# Altium footprint library DATN_LIB.PcbLib: 75 footprints (part 2 of 5)
Each footprint in its own frame and in the unit in brackets; x right, y up, seen from the top. Pads: shape width x height; smd on the part's side, far side on the other; paste and mask are expansions set on the pad; w line width, h text height; cw(c..) or ccw(c..) is an arc to the next point about the centre after c.
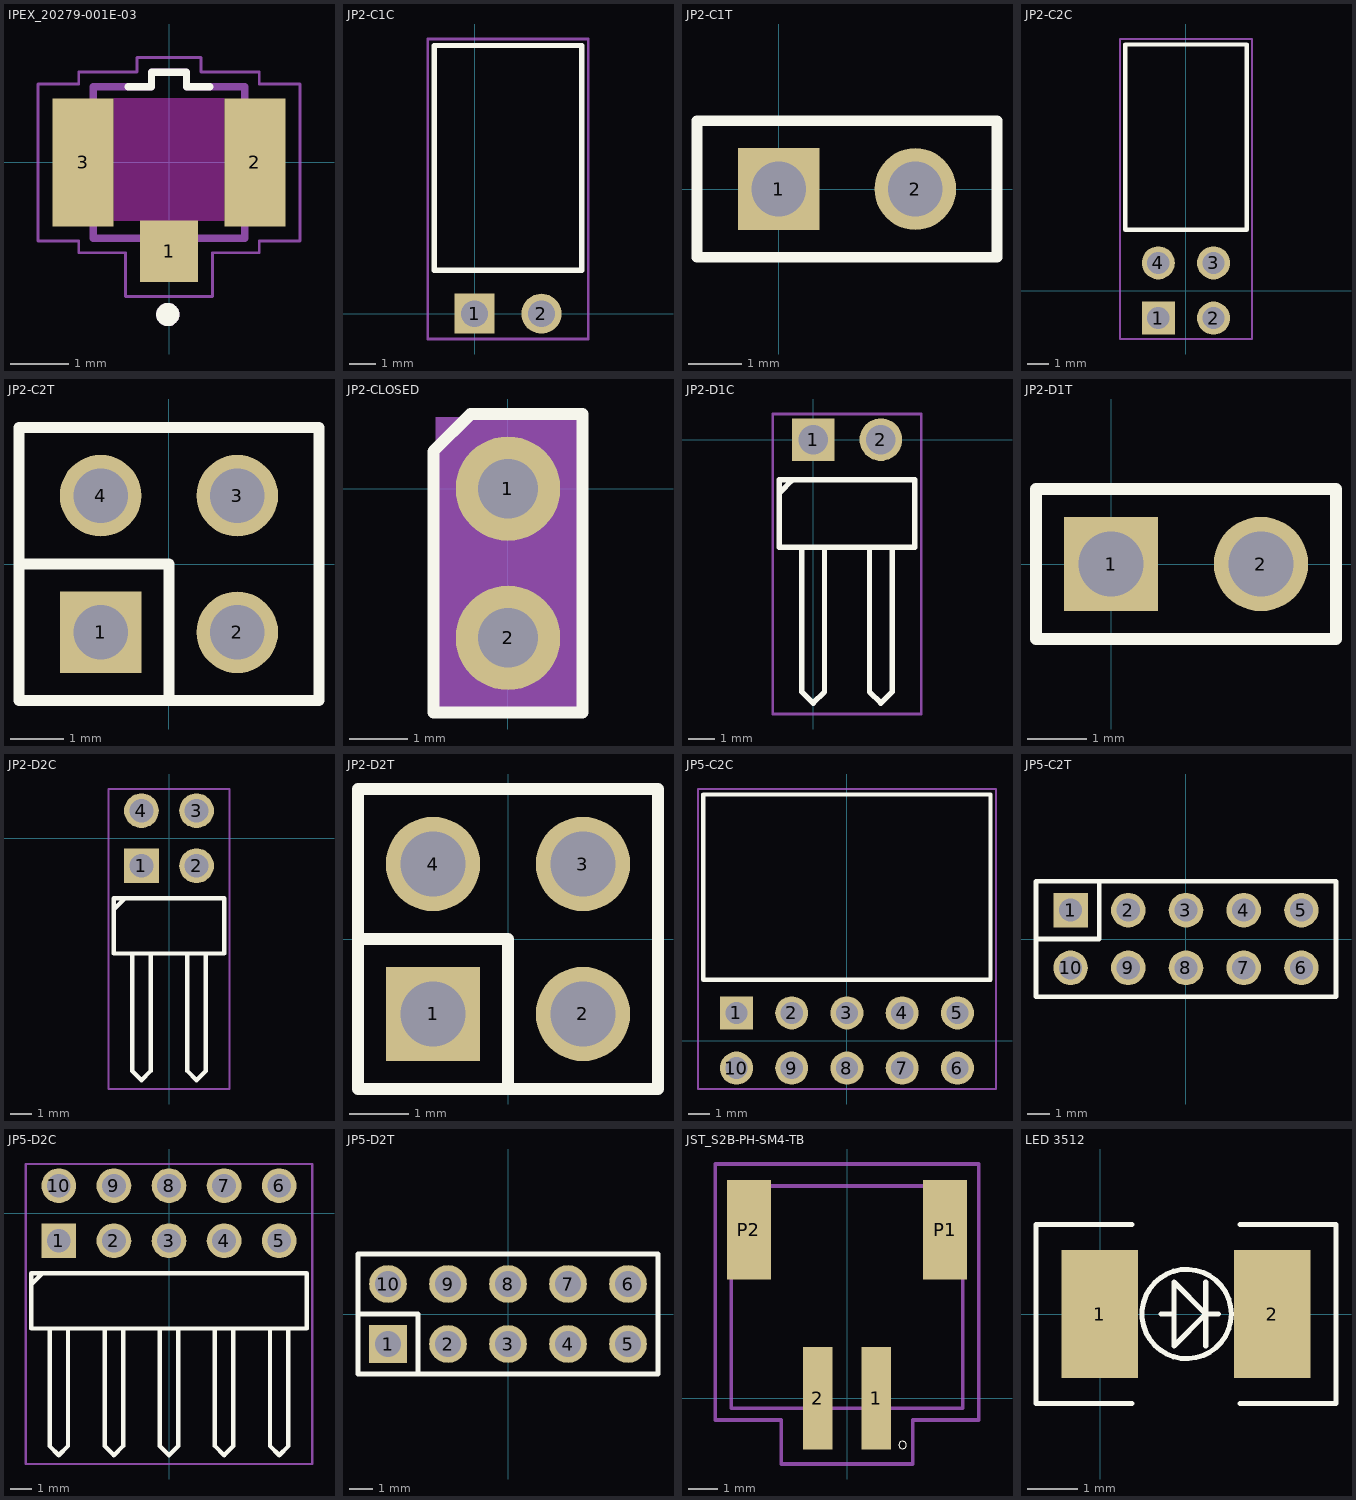
[diagram p1: the footprints below, top view; thin cyan lines are the x and y axes]

## IPEX_20279-001E-03 [mm]
height 1.25
pads (3):
  rect 1x1.05 smd: 1(0,-1.525)
  rect 1.05x2.2 smd: 2(1.475,0) 3(-1.475,0)
Top Overlay:
  circle w0.2: c-0.02,-2.61 r0.1
  lines w0.127: -0.7,1.3 -0.3,1.3 -0.3,1.55 0.3,1.55 0.3,1.3 0.7,1.3
Keep-Out Layer:
  region: 0.95,-1 -0.95,-1 -0.95,1.1 0.95,1.1
Mechanical 13:
  circle w0.2: c-0.02,-2.61 r0.1
  lines w0.127: -1.5,-0.9 -1.3,-0.9 -1.3,-1.3 -0.3,-1.3 -0.3,-1.55 0.3,-1.55 0.3,-1.3 1.3,-1.3 1.3,-0.9 1.5,-0.9 1.5,0.9 1.3,0.9 1.3,1.3 0.3,1.3 0.3,1.55 -0.3,1.55 -0.3,1.3 -1.3,1.3 -1.3,0.9 -1.5,0.9 -1.5,-0.9
Mechanical 15:
  lines w0.05: -2.25,-1.35 -2.25,1.35 -1.55,1.35 -1.55,1.55 -0.55,1.55 -0.55,1.8 0.55,1.8 0.55,1.55 1.55,1.55 1.55,1.35 2.25,1.35 2.25,-1.35 1.55,-1.35 1.55,-1.55 0.75,-1.55 0.75,-2.3 -0.75,-2.3 -0.75,-1.55 -1.55,-1.55 -1.55,-1.35 -2.25,-1.35
3D body "step_temp.STEP": height 1.25, standoff 0, extent -1.5,-1.55 1.5,1.55

## JP2-C1C [mm] "02p 1 row Right angle"
height 2.5
pads (2):
  rect 1.52x1.52 hole 1.02: 1(0,0)
  round 1.52 hole 1.02: 2(2.54,0)
Top Overlay:
  lines w0.2: -1.524,1.651 -1.524,10.173 4.064,10.173 4.064,1.651 -1.524,1.651
Mechanical 15:
  lines w0.1: -1.774,-0.96 -1.774,10.423 4.314,10.423 4.314,-0.96 -1.774,-0.96
3D body "613002143121.stp": height 2.51, standoff -3.08, extent -1.52,-0.127 4.06,10.173

## JP2-C1T [mm] "2 row, straight, gold plating"
height 8.5
pads (2):
  rect 1.52x1.52 hole 1.02: 1(0,0)
  round 1.52 hole 1.02: 2(2.54,0)
Top Overlay:
  lines w0.2: -1.52,-1.27 4.06,-1.27 4.06,1.27 -1.52,1.27 -1.52,-1.27
3D body "61300211821.stp": height 8.51, standoff -3.09, extent -1.52,-1.25 4.06,1.25

## JP2-C2C [mm] "04p 2 rows Right angle"
height 5.08
pads (4):
  rect 1.52x1.52 hole 1.02: 1(-1.27,-1.27)
  round 1.52 hole 1.02: 2(1.27,-1.27) 3(1.27,1.27) 4(-1.27,1.27)
Top Overlay:
  lines w0.2: -2.794,2.794 2.794,2.794 2.794,11.316 -2.794,11.316 -2.794,2.794
Mechanical 15:
  lines w0.1: -3.04,-2.23 -3.04,11.566 3.044,11.566 3.044,-2.23 -3.04,-2.23
3D body "613004243121.stp": height 5.09, standoff -4.46, extent -2.79,-1.524 2.79,11.316

## JP2-C2T [mm] "4 pins, dual row, straight, gold plating"
height 8.5
pads (4):
  rect 1.52x1.52 hole 1.02: 1(-1.27,-1.27)
  round 1.52 hole 1.02: 2(1.27,-1.27) 3(1.27,1.27) 4(-1.27,1.27)
Top Overlay:
  lines w0.2: -2.79,0 0,0 0,-2.54 ; -2.79,-2.54 -2.79,2.54 2.79,2.54 2.79,-2.54 -2.79,-2.54
3D body "61300421821.stp": height 8.51, standoff -3.09, extent -2.79,-2.54 2.79,2.54

## JP2-CLOSED [mil]
pads (2):
  round 70 hole 40: 1(0,0) 2(0,-100)
Top Overlay:
  lines w8: -50,-150 50,-150 50,50 -25,50 -50,25 -50,-150
Mechanical 2:
  rectangle: -48,-151 49.5,48
Mechanical 3:
  rectangle: -48.5,-148 48.5,48
3D body: height 300, standoff -120, extent -15,-115.25 15,-85.25
3D body: height 300, standoff -120, extent -15,-15.25 15,14.75
3D body: height 100, standoff 0, extent -50,-150.43 50,50
3D body: height 220, standoff 100, extent -48,-152 48,48
3D body: height 250, standoff 220, extent -41,-144 40,39.5
3D body: height 280, standoff 250, extent -48,-152 48,48

## JP2-D1C [mm] "2 pins, 1 row, right angled, gold plating"
height 2.54
pads (2):
  rect 1.6x1.6 hole 1.1: 1(0,0)
  round 1.6 hole 1.1: 2(2.54,0)
Top Overlay:
  lines w0.2: -1.228,-1.966 -0.804,-1.542 ; -0.423,-4.065 -0.423,-9.459 0,-9.882 0.423,-9.459 0.423,-4.04 ; 2.117,-4.065 2.117,-9.459 2.54,-9.882 2.963,-9.459 2.963,-4.065 ; -1.27,-4.04 3.81,-4.04 3.81,-1.5 -1.27,-1.5 -1.27,-4.04
Mechanical 15:
  lines w0.1: -1.52,-10.29 4.06,-10.29 4.06,0.96 -1.52,0.96 -1.52,-10.29
3D body "61300211021.stp": height 2.55, standoff -2.99, extent -1.27,-10.064 3.81,0.296

## JP2-D1T [mm] "2 pins, 1 row, straight, gold plating"
height 8.54
pads (2):
  rect 1.6x1.6 hole 1.1: 1(0,0)
  round 1.6 hole 1.1: 2(2.54,0)
Top Overlay:
  lines w0.2: -1.27,-1.27 -1.27,1.27 3.81,1.27 3.81,-1.27 -1.27,-1.27
3D body "61300211121.stp": height 8.54, standoff -3, extent -1.27,-1.27 3.81,1.27

## JP2-D2C [mm] "4 pins, dual row, right angled, gold plating"
height 5.08
pads (4):
  rect 1.6x1.6 hole 1.1: 1(-1.27,-1.27)
  round 1.6 hole 1.1: 2(1.27,-1.27) 3(1.27,1.27) 4(-1.27,1.27)
Top Overlay:
  lines w0.2: -2.498,-3.236 -2.074,-2.812 ; -1.693,-5.335 -1.693,-10.729 -1.27,-11.152 -0.847,-10.729 -0.847,-5.31 ; 0.847,-5.335 0.847,-10.729 1.27,-11.152 1.693,-10.729 1.693,-5.335 ; -2.54,-5.31 2.54,-5.31 2.54,-2.77 -2.54,-2.77 -2.54,-5.31
Mechanical 15:
  lines w0.1: -2.79,-11.56 2.79,-11.56 2.79,2.27 -2.79,2.27 -2.79,-11.56
3D body "61300421021.stp": height 5.09, standoff -2.99, extent -2.54,-11.376 2.54,1.524

## JP2-D2T [mm] "4 pins, dual pin, straight, gold plating"
height 8.54
pads (4):
  rect 1.6x1.6 hole 1.1: 1(-1.27,-1.27)
  round 1.6 hole 1.1: 2(1.27,-1.27) 3(1.27,1.27) 4(-1.27,1.27)
Top Overlay:
  lines w0.2: -2.54,0 0,0 0,-2.54 ; -2.54,-2.54 -2.54,2.54 2.54,2.54 2.54,-2.54 -2.54,-2.54
3D body "61300421121.stp": height 8.55, standoff -2.99, extent -2.54,-2.54 2.54,2.54

## JP5-C2C [mm] "10p 2 rows Right angle"
height 5.08
pads (10):
  rect 1.52x1.52 hole 1.02: 1(-5.08,1.27)
  round 1.52 hole 1.02: 2(-2.54,1.27) 3(0,1.27) 4(2.54,1.27) 5(5.08,1.27) 6(5.08,-1.27) 7(2.54,-1.27) 8(0,-1.27) 9(-2.54,-1.27) 10(-5.08,-1.27)
Top Overlay:
  lines w0.2: -6.604,2.794 6.604,2.794 6.604,11.316 -6.604,11.316 -6.604,2.794
Mechanical 15:
  lines w0.1: -6.85,-2.23 -6.85,11.566 6.854,11.566 6.854,-2.23 -6.85,-2.23
3D body "613010243121.stp": height 5.09, standoff -4.46, extent -6.6,-1.478 6.6,11.362

## JP5-C2T [mm] "10 pins, dual row, straight, gold plating"
height 8.5
pads (10):
  rect 1.52x1.52 hole 1.02: 1(-5.08,1.27)
  round 1.52 hole 1.02: 2(-2.54,1.27) 3(0,1.27) 4(2.54,1.27) 5(5.08,1.27) 6(5.08,-1.27) 7(2.54,-1.27) 8(0,-1.27) 9(-2.54,-1.27) 10(-5.08,-1.27)
Top Overlay:
  lines w0.2: -6.6,0 -3.81,0 -3.81,2.54 ; -6.6,-2.54 -1.27,-2.54 6.6,-2.54 6.6,2.54 -6.6,2.54 -6.6,-2.54
3D body "61301021821.stp": height 8.51, standoff -3.09, extent -6.6,-2.54 6.6,2.54

## JP5-D2C [mm] "10 pins, dual row, right angled, gold plating"
height 5.08
pads (10):
  rect 1.6x1.6 hole 1.1: 1(-5.08,-1.27)
  round 1.6 hole 1.1: 2(-2.54,-1.27) 3(0,-1.27) 4(2.54,-1.27) 5(5.08,-1.27) 6(5.08,1.27) 7(2.54,1.27) 8(0,1.27) 9(-2.54,1.27) 10(-5.08,1.27)
Top Overlay:
  lines w0.2: -6.308,-3.236 -5.884,-2.812 ; -5.503,-5.335 -5.503,-10.729 -5.08,-11.152 -4.657,-10.729 -4.657,-5.31 ; -2.963,-5.335 -2.963,-10.729 -2.54,-11.152 -2.117,-10.729 -2.117,-5.335 ; -0.423,-5.335 -0.423,-10.729 0,-11.152 0.423,-10.729 0.423,-5.31 ; 2.117,-5.335 2.117,-10.729 2.54,-11.152 2.963,-10.729 2.963,-5.335 ; 4.657,-5.335 4.657,-10.729 5.08,-11.152 5.503,-10.729 5.503,-5.31 ; -6.35,-5.31 -6.35,-2.77 6.35,-2.77 6.35,-5.31 -6.35,-5.31
Mechanical 15:
  lines w0.1: -6.6,-11.56 6.6,-11.56 6.6,2.27 -6.6,2.27 -6.6,-11.56
3D body "61301021021.stp": height 5.09, standoff -2.99, extent -6.35,-11.334 6.35,1.566

## JP5-D2T [mm] "10 pins, dual pin, straight, gold plating"
height 8.54
pads (10):
  rect 1.6x1.6 hole 1.1: 1(-5.08,-1.27)
  round 1.6 hole 1.1: 2(-2.54,-1.27) 3(0,-1.27) 4(2.54,-1.27) 5(5.08,-1.27) 6(5.08,1.27) 7(2.54,1.27) 8(0,1.27) 9(-2.54,1.27) 10(-5.08,1.27)
Top Overlay:
  lines w0.2: -6.35,0 -3.81,0 -3.81,-2.54 ; -6.35,-2.54 -6.35,2.54 -1.27,2.54 6.35,2.54 6.35,-2.54 -6.35,-2.54
3D body "61301021121.stp": height 8.55, standoff -2.99, extent -6.35,-2.54 6.35,2.54

## JST_S2B-PH-SM4-TB [mm]
pads (4):
  rect 1x3.5 smd: 1(1,0) 2(-1,0)
  rect 1.5x3.4 smd: P1(3.35,5.75) P2(-3.35,5.75)
Top Overlay:
  circle w0: c1.9,-1.6 r0.127
Mechanical 13:
  lines w0.127: -3.95,-0.35 3.95,-0.35 3.95,7.25 -3.95,7.25 -3.95,-0.35
Mechanical 15:
  lines w0.127: -4.5,-0.75 -2.25,-0.75 -2.25,-2.25 2.25,-2.25 2.25,-0.75 4.5,-0.75 4.5,8 -4.5,8 -4.5,-0.75
3D body "step_temp.STEP": height 5.5, standoff -0.1, extent -3.963,-1.379 3.937,7.221

## LED 3512 [mil]
pads (2):
  rect 60x100 smd: 1(-0.2,0) 2(134.8,0)
Top Overlay:
  circle w4: c67.8,0 r35
  lines w4: 24.8,-70 -50.2,-70 -50.2,70 24.8,70 ; 82.8,-25 82.8,0 ; 82.8,25 82.8,0 ; 92.8,0 82.8,0 ; 109.8,-70 184.8,-70 184.8,70 109.8,70 ; 57.8,0 47.8,0 57.8,0 ; 57.8,0 57.8,25 82.8,0 ; 57.8,0 57.8,-25 82.8,0
3D body: height 11.81, standoff 0, extent 116.35,-47.48 154.73,-15
3D body: height 43.31, standoff 27.56, extent 138,-47.48 154.73,-15
3D body: height 43.31, standoff 0, extent 142.92,-47.48 154.73,-15
3D body: height 43.31, standoff 0, extent 142.92,15 154.73,47.48
3D body: height 43.31, standoff 27.56, extent 138,15 154.73,47.48
3D body: height 11.81, standoff 0, extent 116.35,15 154.73,47.48
3D body: height 11.81, standoff 0, extent -19.73,-47.48 18.65,-15
3D body: height 43.31, standoff 27.56, extent -19.73,-47.48 -3,-15
3D body: height 43.31, standoff 0, extent -19.73,-47.48 -7.92,-15
3D body: height 75, standoff 60, extent -3,-60 137.2,60
3D body: height 61, standoff 60, extent -3,37.2 19.8,60
3D body: height 60, standoff 15, extent -3,-60 137.2,60
3D body: height 19.68, standoff 0, extent 39.8,-60 94.8,60
3D body: height 43.31, standoff 0, extent -19.73,15 -7.92,47.48
3D body: height 43.31, standoff 27.56, extent -19.73,15 -3,47.48
3D body: height 11.81, standoff 0, extent -19.73,15 18.65,47.48
3D body: height 65, standoff 60, extent 47,-20 87,20
3D body: height 61, standoff 60, extent 54.49,-36.96 110.14,36.96
3D body: height 61, standoff 60, extent 29.8,-10 49.8,5
3D body: height 75, standoff 70, extent 7,-50 127,50